# Altium footprint library PcbLib_autocar.PcbLib: 24 footprints (part 1 of 2)
Each footprint in its own frame and in the unit in brackets; x right, y up, seen from the top. Pads: shape width x height; smd on the part's side, far side on the other; paste and mask are expansions set on the pad; w line width, h text height; cw(c..) or ccw(c..) is an arc to the next point about the centre after c.
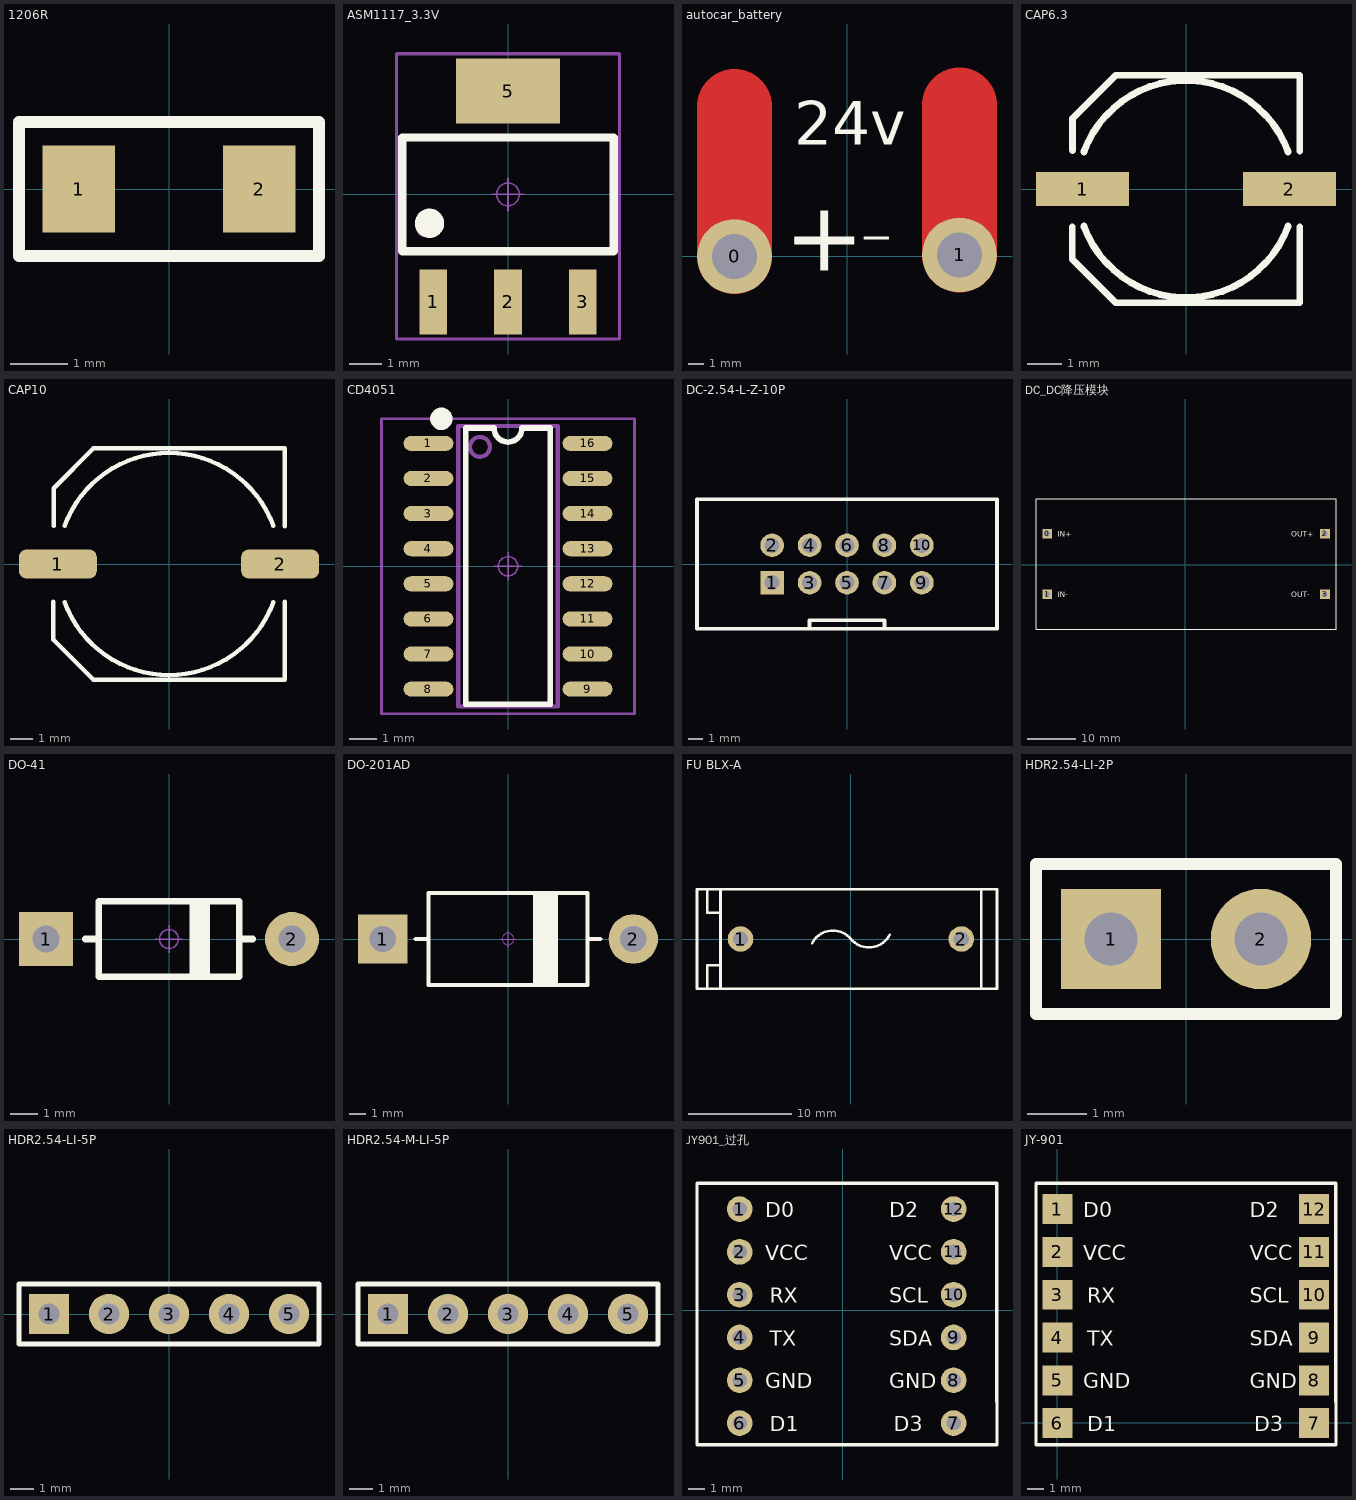
[diagram p0: the footprints below, top view; thin cyan lines are the x and y axes]

## 1206R [mil]
pads (2):
  rect 50x60 smd: 1(-62,0) 2(62,0)
Top Overlay:
  lines w8: -103,-46 -103,46 40,46 103,46 103,-46 40,-46 -103,-46
3D body "R1206.STEP": height 23.62, standoff 0, extent -63.98,-32.49 62,30.51

## ASM1117_3.3V [mm] "6.4x7x1.6mm(长宽高)"
height 1.7
pads (4):
  rect 0.85x2 smd: 1(-2.3,-3.302) 2(0,-3.302) 3(2.3,-3.302)
  rect 3.2x2 smd: 5(0,3.175)
Top Overlay:
  circle w0.5: c-2.413,-0.889 r0.2
  lines w0.25: -3.25,-1.75 3.25,-1.75 3.25,1.75 -3.25,1.75 -3.25,-1.75
Mechanical 13:
  circle w0.1: c-2.536,-1.016 r0.25
  lines w0.1: -3.25,-1.75 -3.25,1.75 3.25,1.75 3.25,-1.75 -3.25,-1.75
Mechanical 15:
  circle w0.05: c0,0 r0.35
  lines w0.05: -0.5,0 0.5,0 ; 0,-0.5 0,0.5
  lines w0.1: -3.429,-4.445 -3.429,4.318 3.429,4.318 3.429,-4.445 -3.429,-4.445
3D body "SOT223.STEP": height 1.65, standoff -0.02, extent -3.25,-3.508 3.25,3.508

## autocar_battery [mm] "24v电池接口"
pads (2):
  round 5 hole 3: 0(-7.5,0) 1(7.5,0.1)
Top Layer:
  lines w5: -7.5,0 -7.5,10 ; 7.5,0.1 7.5,10.1
Top Overlay:
  text "+" at -4.2,-2.5 h8
  text "-" at 0.8,-1.9 h8
  text "24v" at -3.5,6.5 h5
Top Solder:
  lines w4: -7.5,0 -7.5,10 ; 7.5,0.1 7.5,10.1

## CAP6.3 [mm] "直径6.3mm（蒜米工坊）"
height 5.4
pads (2):
  rect 2.7x1 smd: 1(-3,0) 2(3,0)
Top Overlay:
  lines w0.2: -3.3,-1.1 -3.3,-2.032 -2.032,-3.3 3.3,-3.3 3.3,-1.1 ; -3.287,1.113 -3.287,2.045 -2.032,3.3 3.3,3.3 3.3,1.1 ; -2.96,-1.077 ccw(c0,0) 2.96,-1.077 ; -2.96,1.077 cw(c0,0) 2.96,1.077
3D body "SL-E.step": height 5.2, standoff 0, extent -3.5,-3.302 3.5,3.298

## CAP10 [mm] "直径10mm（蒜米工坊）"
height 10.2
pads (2):
  rrect50% 3.5x1.3 smd: 1(-5,0) 2(5,0)
Top Overlay:
  lines w0.2: -5.2,-1.7 -5.2,-3.404 -3.404,-5.2 5.2,-5.2 5.2,-1.7 ; -5.191,1.709 -5.191,3.413 -3.404,5.2 5.2,5.2 5.2,1.7 ; -4.698,-1.71 ccw(c0,0) 4.698,-1.71 ; -4.698,1.71 cw(c0,0) 4.698,1.71
3D body "SW3dPS-capacitor size G.STEP": height 10.21, standoff -0.01, extent -5.775,-5.118 5.825,5.182

## CD4051 [mm] "10.3*6.2*1.8mm（长宽高）"
height 1.75
pads (16):
  oval 1.8x0.55 smd: 1(-2.877,4.445) 2(-2.877,3.175) 3(-2.877,1.905) 4(-2.877,0.635) 5(-2.877,-0.635) 6(-2.877,-1.905) 7(-2.877,-3.175) 8(-2.877,-4.445) 9(2.877,-4.445) 10(2.877,-3.175) 11(2.877,-1.905) 12(2.877,-0.635) 13(2.877,0.635) 14(2.877,1.905) 15(2.877,3.175) 16(2.877,4.445)
Top Overlay:
  circle w0.5: c-2.413,5.334 r0.155
  lines w0.2: -1.524,5 -1.524,-5 1.524,-5 1.524,5
  lines w0.203: -1.524,5 -0.508,5 ccw(c0,5) 0,4.492 ccw(c0,5) 0.508,5 1.524,5
Mechanical 13:
  circle w0.15: c-1.016,4.318 r0.359
  lines w0.15: -1.8,-5.08 1.8,-5.08 1.8,5.08 -1.8,5.08 -1.8,-5.08
Mechanical 15:
  circle w0.05: c0,0 r0.35
  lines w0.05: -0.5,0 0.5,0 ; 0,-0.5 0,0.5
  lines w0.1: -4.572,-5.334 4.572,-5.334 4.572,5.334 -4.572,5.334 -4.572,-5.334
3D body "SOP16.STEP": height 1.9, standoff 0, extent -3.003,-5 3.003,5

## DC-2.54-L-Z-10P [mm] "立式直插简牛插座，间距2.54（蒜米工坊）"
pads (10):
  rect 1.6x1.6 hole 1.02: 1(-5.08,-1.27)
  round 1.6 hole 1.02: 2(-5.08,1.27) 3(-2.54,-1.27) 4(-2.54,1.27) 5(0,-1.27) 6(0,1.27) 7(2.54,-1.27) 8(2.54,1.27) 9(5.08,-1.27) 10(5.08,1.27)
Top Overlay:
  lines w0.254: -2.54,-4.4 -2.54,-3.81 2.54,-3.81 2.54,-4.4 ; -10.175,-4.4 10.175,-4.4 10.175,4.4 -10.175,4.4 -10.175,-4.4
3D body "2.54牛角插座2×5P.STEP": height 8.8, standoff -3.5, extent -10.175,-4.4 10.175,4.7

## DC_DC降压模块 [mm] "5A最高"
pads (4):
  rect 2x2 hole 1.1: 0(-28.55,6.45) 1(-28.55,-6.05) 2(28.95,6.45) 3(28.95,-6.05)
Top Overlay:
  lines w0.254: -30.861,-13.335 -30.861,13.716 31.242,13.716 31.242,-13.335 -30.861,-13.335
  text "OUT-" at 22,-7.125 h2
  text "OUT+" at 22,5.375 h2
  text "IN-" at -26.325,-7.125 h2
  text "IN+" at -26.325,5.375 h2

## DO-41 [mm] "2.6*9.1mm(直径，脚距）"
height 2.4
pads (2):
  rect 2x2 hole 1: 1(-4.55,0)
  round 2 hole 1: 2(4.55,0)
Top Overlay:
  rectangle: 0.762,-1.397 1.524,1.397
  lines w0.254: -3.1,0 -2.6,0 ; 2.6,0 3.1,0 ; -2.6,-1.397 -2.6,1.397 2.6,1.397 2.6,-1.397 -2.6,-1.397
Mechanical 15:
  circle w0.05: c0,0 r0.35
  lines w0.05: -0.5,0 0.5,0 ; 0,-0.5 0,0.5
3D body "DO-41.STEP": height 2.65, standoff -3.45, extent -4.925,-1.288 4.975,1.314

## DO-201AD [mm] "5.2*15.2mm(直径，脚距）"
pads (2):
  rect 3x3 hole 1.6: 1(-7.6,0)
  round 3 hole 1.6: 2(7.6,0)
Top Overlay:
  rectangle: 1.524,-2.794 3.048,2.794
  lines w0.254: -5.6,0 -4.826,0 ; 4.826,0 5.6,0 ; -4.826,-2.794 -4.826,2.794 4.826,2.794 4.826,-2.794 -4.826,-2.794
Mechanical 15:
  circle w0.05: c0,0 r0.35
  lines w0.05: -0.5,0 0.5,0 ; 0,-0.5 0,0.5
3D body "DO-201AD.STEP": height 5.25, standoff -3.46, extent -8.25,-2.601 8.25,2.601

## FU BLX-A [mm] "BLX-A型保险丝座"
pads (2):
  round 2.5 hole 1.5: 1(-10.75,0) 2(10.75,0)
Top Overlay:
  lines w0.254: -12.7,-4.826 -12.7,-2.54 ; -12.7,4.826 -12.7,2.54 ; -3.782,-0.419 cw(c-1.751,-1.469) 0,0 ccw(c1.751,1.469) 3.782,0.419 ; 12.446,-4.826 14.224,-4.826 14.224,4.826 12.7,4.826 ; -13.97,-4.826 -14.986,-4.826 -14.986,4.826 -13.97,4.826 ; -13.97,-4.826 12.7,-4.826 12.7,4.826 ; -13.97,-4.826 -13.97,-2.54 -12.7,-2.54 ; -13.97,4.826 12.7,4.826 ; -13.97,4.826 -13.97,2.54 -12.7,2.54 ; -12.7,-2.54 -12.7,2.54
3D body "FU BLX_A.STEP": height 13.9, standoff -3.6, extent -15.05,-4.75 14.299,4.75

## HDR2.54-LI-2P [mm] "排针，2脚"
pads (2):
  rect 1.7x1.7 hole 0.9: 1(-1.27,0)
  round 1.7 hole 0.9: 2(1.27,0)
Top Overlay:
  lines w0.2: -2.54,-1.27 2.54,-1.27 2.54,1.27 -2.54,1.27 -2.54,-1.27
3D body "HDR2.54-1P.STEP": height 8.5, standoff -3, extent -2.54,-1.27 0,1.27
3D body "HDR2.54-1P.STEP": height 8.5, standoff -3, extent 0,-1.27 2.54,1.27

## HDR2.54-LI-5P [mm] "排针，5脚"
pads (5):
  rect 1.7x1.7 hole 0.9: 1(-5.08,0)
  round 1.7 hole 0.9: 2(-2.54,0) 3(0,0) 4(2.54,0) 5(5.08,0)
Top Overlay:
  lines w0.2: -6.35,-1.27 -6.35,1.27 6.35,1.27 6.35,-1.27 -6.35,-1.27
3D body "HDR2.54-1P.STEP": height 8.5, standoff -3, extent 3.81,-1.27 6.35,1.27
3D body "HDR2.54-1P.STEP": height 8.5, standoff -3, extent -1.27,-1.27 1.27,1.27
3D body "HDR2.54-1P.STEP": height 8.5, standoff -3, extent 1.27,-1.27 3.81,1.27
3D body "HDR2.54-1P.STEP": height 8.5, standoff -3, extent -6.35,-1.27 -3.81,1.27
3D body "HDR2.54-1P.STEP": height 8.5, standoff -3, extent -3.81,-1.27 -1.27,1.27

## HDR2.54-M-LI-5P [mm] "排母，5脚"
pads (5):
  rect 1.7x1.7 hole 0.9: 1(-5.08,0)
  round 1.7 hole 0.9: 2(-2.54,0) 3(0,0) 4(2.54,0) 5(5.08,0)
Top Overlay:
  lines w0.2: -6.35,-1.27 6.35,-1.27 6.35,1.27 -6.35,1.27 -6.35,-1.27
3D body "HDR2.54-1P_M.STEP": height 8.5, standoff -3, extent -3.81,-1.27 -1.27,1.27
3D body "HDR2.54-1P_M.STEP": height 8.5, standoff -3, extent -6.35,-1.27 -3.81,1.27
3D body "HDR2.54-1P_M.STEP": height 8.5, standoff -3, extent 1.27,-1.27 3.81,1.27
3D body "HDR2.54-1P_M.STEP": height 8.5, standoff -3, extent -1.27,-1.27 1.27,1.27
3D body "HDR2.54-1P_M.STEP": height 8.5, standoff -3, extent 3.81,-1.27 6.35,1.27

## JY901_过孔 [mil]
pads (12):
  round 60 hole 33.46: 1(-241,236) 2(-241,136) 3(-241,36) 4(-241,-64) 5(-241,-164) 6(-241,-264) 7(259,-264) 8(259,-164) 9(259,-64) 10(259,36) 11(259,136) 12(259,236)
Top Overlay:
  lines w7.87: -340.71,-214.15 -340.71,185.85 ; 359.29,185.85 359.29,-214.15 360.29,-214.15
  lines w8: -340.71,-214.15 -340.71,-315.15 360.29,-315.15 360.29,-214.15 ; -340.71,185.85 -340.71,296.85 359.29,296.85 359.29,185.85
  text "VCC" at -181,116.98 h35
  text "VCC" at 109,116.98 h35
  text "GND" at -181,-183.02 h35
  text "GND" at 109,-183.02 h35
  text "RX" at -171,16.98 h35
  text "TX" at -171,-83.02 h35
  text "SDA" at 109,-83.02 h35
  text "SCL" at 109,16.98 h35
  text "D0" at -181,216.98 h35
  text "D1" at -171,-283.02 h35
  text "D2" at 109,216.98 h35
  text "D3" at 119,-283.02 h35

## JY-901 [mil]
pads (12):
  rect 70x70 smd: 1(0.63,499.63) 2(0.63,399.63) 3(0.63,299.63) 4(0.63,199.63) 5(0.63,99.63) 6(0.63,-0.37) 7(600.63,-0.37) 8(600.63,99.63) 9(600.63,199.63) 10(600.63,299.63) 11(600.63,399.63) 12(600.63,499.63)
Top Overlay:
  lines w7.87: -49.37,49.63 -49.37,449.63 ; 650.63,449.63 650.63,49.63 651.63,49.63
  lines w8: -49.37,49.63 -49.37,-51.37 651.63,-51.37 651.63,49.63 ; -49.37,449.63 -49.37,560.63 650.63,560.63 650.63,449.63
  text "VCC" at 60.63,380.63 h35
  text "VCC" at 450.63,380.63 h35
  text "GND" at 60.63,80.63 h35
  text "GND" at 450.63,80.63 h35
  text "RX" at 70.63,280.63 h35
  text "TX" at 70.63,180.63 h35
  text "SDA" at 450.63,180.63 h35
  text "SCL" at 450.63,280.63 h35
  text "D0" at 60.63,480.63 h35
  text "D1" at 70.63,-19.37 h35
  text "D2" at 450.63,480.63 h35
  text "D3" at 460.63,-19.37 h35